# Altium schematic symbol library ResistorsSymbol.SchLib: 2 symbols
Pins are listed as number, name and electrical type; pins without a type are passive.

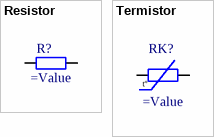
[diagram p0: symbols Resistor to Termistor]

## Resistor
designator R?
Резистор
pins: 1, 2

## Termistor
designator RK?
Термистор
pins: 1, 2
text: t°